# Altium footprint library CL10C270JB81PNC.PcbLib: 1 footprints
Each footprint in its own frame and in the unit in brackets; x right, y up, seen from the top. Pads: shape width x height; smd on the part's side, far side on the other; paste and mask are expansions set on the pad; w line width, h text height; cw(c..) or ccw(c..) is an arc to the next point about the centre after c.
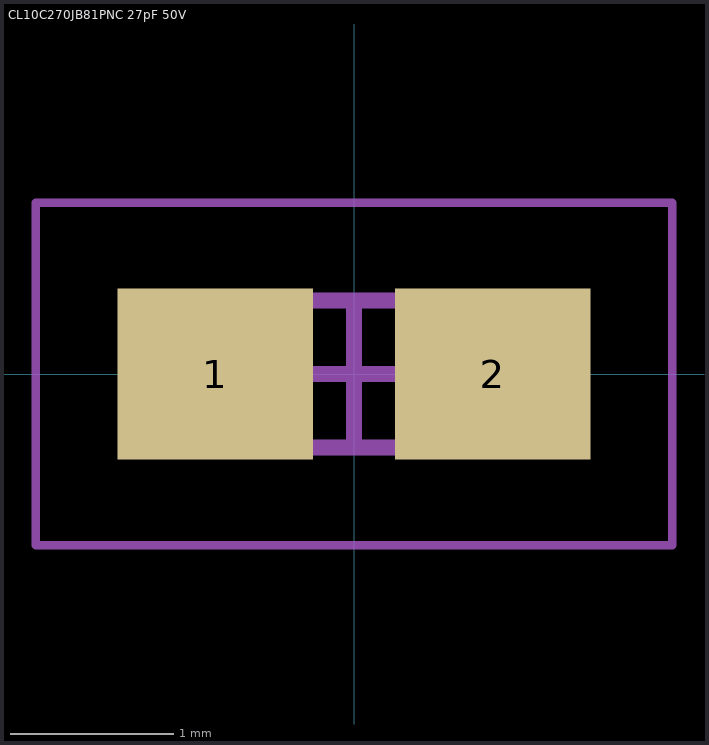
[diagram p0: the footprint, top view; thin cyan lines are the x and y axes]

## CL10C270JB81PNC 27pF 50V [mm] "Chip Capacitor, 2-Leads, Body 1.60x0.80mm, IPC Low Density"
height 0.9
pads (2):
  rect 1.2x1.05 smd: 1(-0.85,0) 2(0.85,0)
Mechanical 13:
  lines w0.1: -0.85,-0.45 0.85,-0.45 0.85,0.45 -0.85,0.45 -0.85,-0.45
Mechanical 15:
  lines w0.05: -1.95,-1.05 1.95,-1.05 1.95,1.05 -1.95,1.05 -1.95,-1.05
  lines w0.1: -0.45,0 0.45,0 ; 0,-0.45 0,0.45
3D body " CL10C270JB81PNC 27pF 50V.step": height 0.9, standoff 0, extent -0.85,-0.45 0.85,0.45